# Altium schematic symbol library LM4809LDX.SchLib: 1 symbol
Pins are listed as number, name and electrical type; pins without a type are passive.

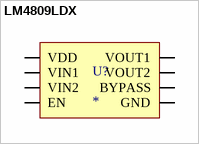
[diagram p0: symbol LM4809LDX]

## LM4809LDX
designator U?
pins: 1 VIN1, 2 BYPASS, 3 GND, 4 EN, 5 VIN2, 6 VOUT2, 7 VDD, 8 VOUT1